# EAGLE library part 739-312/001-000 (library con-wago_739)
Serie 739, Klemmenleiste für Leiterplatten 1 Lötstift/Pol / Series 739, PCB terminal strip 1 solder pin/pole Polzahl / Pole No.: 12 Rastermaß / Pitch: 3.5 mm Bemessungsspannung / Rated Voltage: 160 V Nennstrom / Nominal Current: 17.5 A Leiterquerschnitt / Conductor Size: 0.08 - 1.5 mm² Anschlusstechnik / Connection Technology: CAGE CLAMP® Lötstiftlänge: / Solder Pin Length: 3.4 mm Leitereinführung (zur Platine) / Conductor entry angle (to PCB): 90 ° Farbe / Color: grau / gray Stand: 01.01.2012. Die jeweils aktuellen Daten zu diesem Artikel finden Sie in unserem Produktkatalog, den Sie unter www.wago.com einsehen können. As of: 01/01/2012. Please find the newest data for this article in our product catalogue, which can be viewed under www.wago.com.
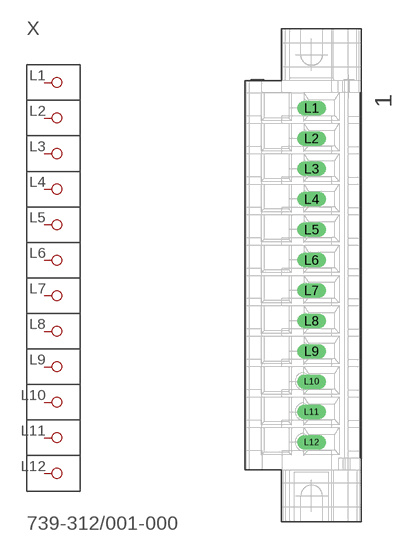
[diagram p59: symbol with the pads of P-739-312/001-000; footprint P-739-312/001-000]

Designator prefix X

## 739-312/001-000  [P-739-312/001-000]
L1  P1
L2  P2
L3  P3
L4  P4
L5  P5
L6  P6
L7  P7
L8  P8
L9  P9
L10  P10
L11  P11
L12  P12

## Footprint P-739-312/001-000 (pad centres in mm)
drill 1.1 long: L1 1,19.25; L2 1,15.75; L3 1,12.25; L4 1,8.75; L5 1,5.25; L6 1,1.75; L7 1,-1.75; L8 1,-5.25; L9 1,-8.75; L10 1,-12.25; L11 1,-15.75; L12 1,-19.25